# Altium schematic symbol library R_2up_Array.Schlib: 1 symbol
Pins are listed as number, name and electrical type; pins without a type are passive.

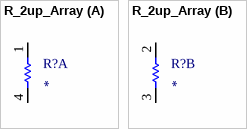
[diagram p0: symbol R_2up_Array]

## R_2up_Array
designator R?
part A pins: 1, 4 8
part B pins: 2, 3
1 alternate drawing of the same symbol